# Altium schematic symbol library 1514-2.SchLib: 1 symbol
Pins are listed as number, name and electrical type; pins without a type are passive.

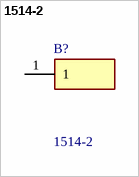
[diagram p0: symbol 1514-2]

## 1514-2
designator B?
KEYSTONE - 1514-2 - TERMINAL, TURRET, 0.09IN, THROUGH HOLE; Manufacturer_Name: Keystone Electronics; Geometry.Height: 7.14mm; Mouser Part Number: 534-1514-2; Mouser Price/Stock: https://www.mouser.co.uk/ProductDetail/Keystone-Electronics/1514-2?qs=q0tsjPZWdm8tT%252BQidGxCiw%3D%3D; Manufacturer_Part_Number: 1514-2; Datasheet Link: *
footprint 15142
pins: 1